# EAGLE library part AD5932 (library kblom)
Programmable Frequency Scan Waveform Generator Applications: Frequency scanning/radar Network/impedance measurements Incremental frequency stimulus Sensory applications Proximity and motion source <http://www.analog.com/static/imported-files/data_sheets/AD5932.pdf> dds
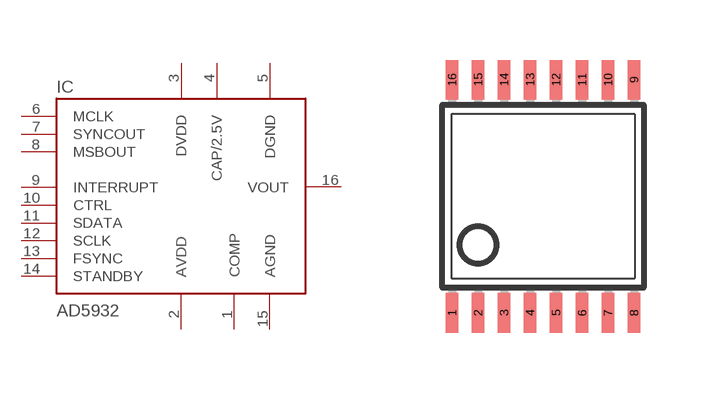
[diagram p10: symbol with the pads of TSSOP16; footprint TSSOP16]

Designator prefix IC

## AD5932  [TSSOP16]
1  COMP
2  AVDD
3  DVDD
4  CAP/2.5V
5  DGND
6  MCLK
7  SYNCOUT
8  MSBOUT
9  INTERRUPT
10  CTRL
11  SDATA
12  SCLK
13  FSYNC
14  STANDBY
15  AGND
16  VOUT

## Footprint TSSOP16 (pad centres in mm)
Thin Shrink Small Outline Plastic 16 MAX3223-MAX3243.pdf
smd 0.305 x 0.991: 1 -2.275,-2.918; 2 -1.625,-2.918; 3 -0.975,-2.918; 4 -0.325,-2.918; 5 0.325,-2.918; 6 0.975,-2.918; 7 1.625,-2.918; 8 2.275,-2.918; 9 2.275,2.918; 10 1.625,2.918; 11 0.975,2.918; 12 0.325,2.918; 13 -0.325,2.918; 14 -0.975,2.918; 15 -1.625,2.918; 16 -2.275,2.918